# Altium footprint library Solder_Bridge.PcbLib: 2 footprints
Each footprint in its own frame and in the unit in brackets; x right, y up, seen from the top. Pads: shape width x height; smd on the part's side, far side on the other; paste and mask are expansions set on the pad; w line width, h text height; cw(c..) or ccw(c..) is an arc to the next point about the centre after c.
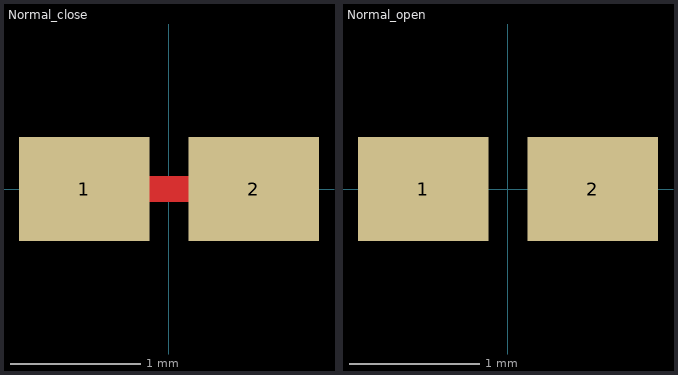
[diagram p0: the footprints below, top view; thin cyan lines are the x and y axes]

## Normal_close [mm]
pads (2):
  rect 1x0.8 smd paste-1.016 mask-10: 1(-0.65,0) 2(0.65,0)
Top Layer:
  rectangle: -0.45,-0.1 0.425,0.1

## Normal_open [mm]
pads (2):
  rect 1x0.8 smd paste-1.016 mask-10: 1(-0.65,0) 2(0.65,0)